# Altium schematic symbol library ECE198Parts.SchLib: 15 symbols
Pins are listed as number, name and electrical type; pins without a type are passive.

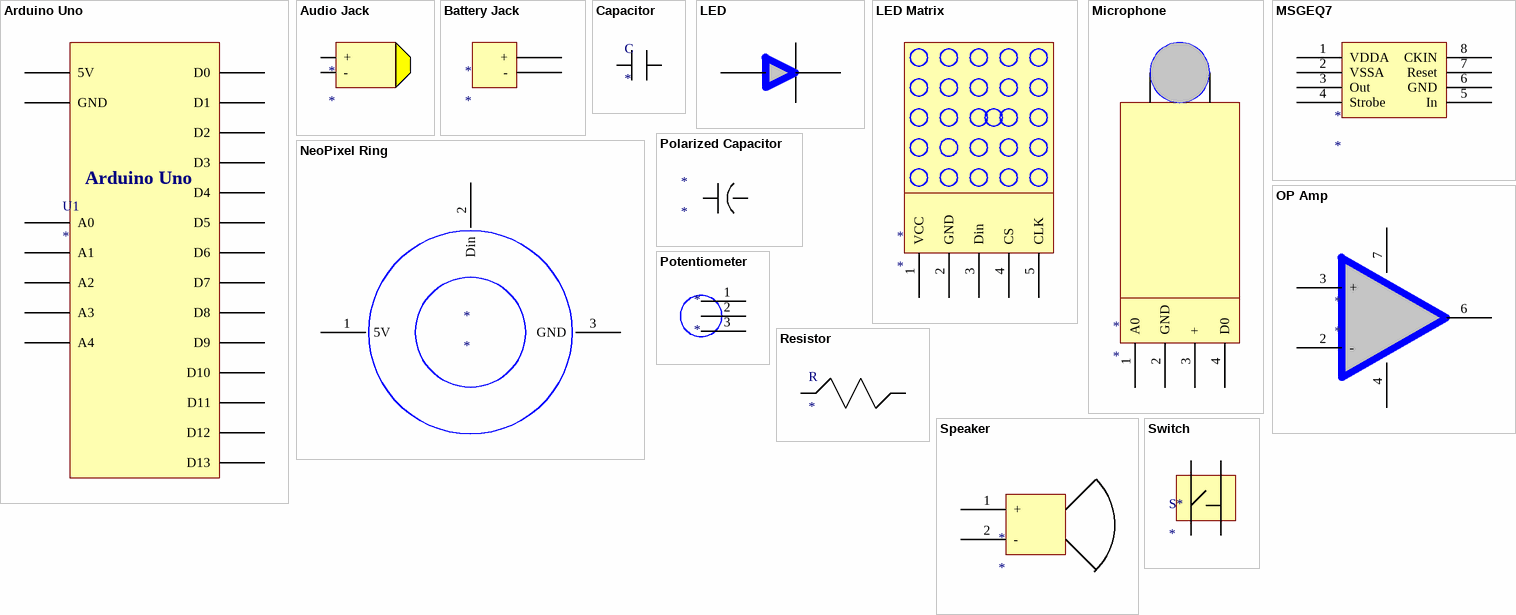
[diagram p0: symbols Arduino Uno to Switch]

## Arduino Uno
designator U1
pins: 1 5V, 2 GND, 2 A0, 3 A1, 4 A2, 5 A3, 6 A4, 7 D0, 8 D1, 9 D2, 10 D3, 11 D4, 12 D5, 13 D6, 14 D7, 15 D8, 16 D9, 17 D10, 18 D11, 18 D12, 19 D13

## Audio Jack
designator *
pins: 1 +, 2 -

## Battery Jack
designator *
pins: 1 +, 8 -

## Capacitor
designator C
pins: 56, 57

## LED
designator *  (value not drawn)
pins: 33, 34

## LED Matrix
designator *
pins: 1 VCC, 2 GND, 3 Din, 4 CS, 5 CLK

## Microphone
designator *
pins: 1 A0, 2 GND, 3 +, 4 D0

## MSGEQ7
designator *
pins: 1 VDDA, 2 VSSA, 3 Out, 4 Strobe, 5 In, 6 GND, 7 Reset, 8 CKIN

## NeoPixel Ring
designator *
pins: 1 5V, 2 Din, 3 GND

## OP Amp
designator *
pins: 2 -, 3 +, 4 45, 6, 7 44

## Polarized Capacitor
designator *
pins: 9, 10

## Potentiometer
designator *
pins: 1 35, 2 36, 3 37

## Resistor
designator R
pins: 54, 55

## Speaker
designator *
pins: 1 +, 2 -

## Switch
designator S*
pins: 29, 30, 31, 32